# Altium schematic symbol library A111.SchLib: 1 symbol
Pins are listed as number, name and electrical type; pins without a type are passive.

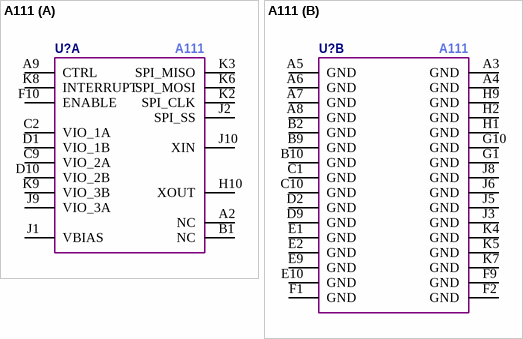
[diagram p0: symbol A111]

## A111
designator U?  Manufacturer Part Number: A111  (hidden comment: *)
part A pins: A2 NC "Must not Connect", A9 CTRL "Optional control signal.", B1 NC "Must Not Connect", C2 VIO_1A, C9 VIO_2A, D1 VIO_1B, D10 VIO_2B, F10 ENABLE "Must be connected to host MCU available GPIO. Active High", H10 XOUT "XTAL out", J1 VBIAS "The analog VBIAS must be connected to VIO_3", J2 SPI_SS "SPI slave select, active low select.", J9 VIO_3A "Supply voltage, digital part", J10 XIN "XTAL input OR external ref clk input", K2 SPI_CLK "SPI Serial Clock", K3 SPI_MISO "Master Input – Slave Output", K6 SPI_MOSI "Master Output – Slave Input", K8 INTERRUPT "Interrupt signal that is used as an interrupt to the hos", K9 VIO_3B "Supply voltage, digital part"
part B pins: A3 GND "Ground", A4 GND "Ground", A5 GND "Ground", A6 GND "Ground", A7 GND "Ground", A8 GND "Ground", B2 GND "Must be connected to solid ground plane", B9 GND "Must be connected to solid ground plane", B10 GND "Must be connected to solid ground plane", C1 GND "Must be connected to solid ground plane", C10 GND "Must be connected to solid ground plane", D2 GND "Must be connected to solid ground plane", D9 GND "Must be connected to solid ground plane", E1 GND "Must be connected to solid ground plane", E2 GND "Must be connected to solid ground plane", E9 GND "Must be connected to solid ground plane", E10 GND "Must be connected to solid ground plane", F1 GND "Must be connected to solid ground plane", F2 GND "Must be connected to solid ground plane", F9 GND "Must be connected to solid ground plane", G1 GND "Must be connected to solid ground plane", G10 GND "Must be connected to solid ground plane", H1 GND "Must be connected to solid ground plane", H2 GND "Must be connected to solid ground plane", H9 GND "Must be connected to solid ground plane", J3 GND "Must be connected to solid ground plane", J5 GND "Must be connected to solid ground plane", J6 GND "Must be connected to solid ground plane", J8 GND "Must be connected to solid ground plane", K4 GND "Must be connected to solid ground plane", K5 GND "Must be connected to solid ground plane", K7 GND "Must be connected to solid ground plane"